# EAGLE library part IMU_NXP_ADAFRUIT2 (library 1mario)
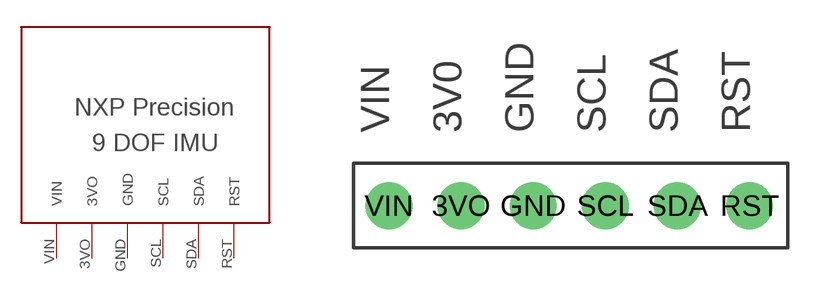
[diagram p4: symbol with the pads of NXP_ADAFRUIT2; footprint NXP_ADAFRUIT2]

Designator prefix -

## IMU_NXP_ADAFRUIT2  [NXP_ADAFRUIT2]
3VO  3VO
GND  GND
RST  RST
SCL  SCL
SDA  SDA
VIN  VIN

## Footprint NXP_ADAFRUIT2 (pad centres in mm)
drill 1.1: 3VO 3.79,1.484; GND 6.33,1.484; RST 13.95,1.484; SCL 8.87,1.484; SDA 11.41,1.484; VIN 1.25,1.484